# Altium footprint library PCB Overlays.PcbLib: 1 footprints
Each footprint in its own frame and in the unit in brackets; x right, y up, seen from the top. Pads: shape width x height; smd on the part's side, far side on the other; paste and mask are expansions set on the pad; w line width, h text height; cw(c..) or ccw(c..) is an arc to the next point about the centre after c.
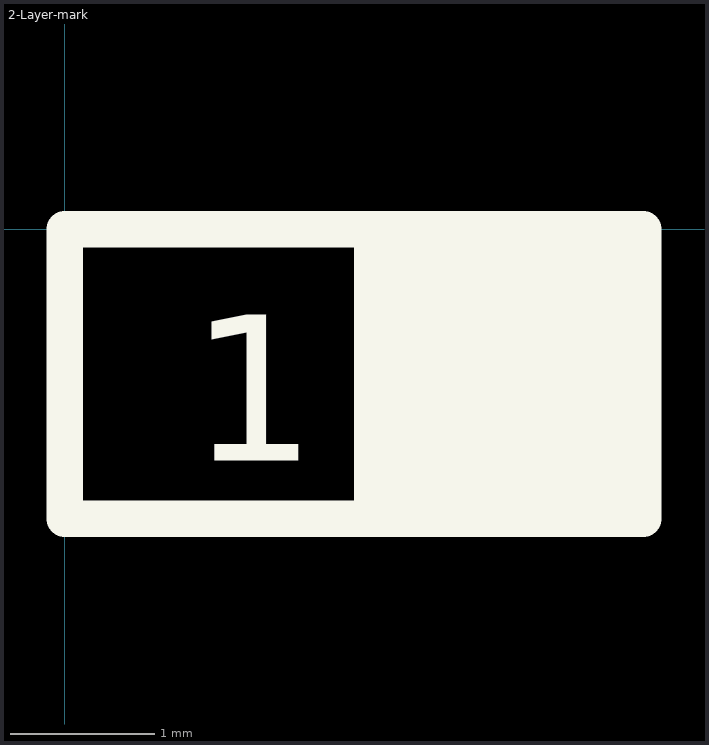
[diagram p0: the footprint, top view; thin cyan lines are the x and y axes]

## 2-Layer-mark [mm] "2 Layer PCB Indicator"
Top Overlay:
  rectangle: 2,-2 4,0
  lines w0.254: 0,-2 4,-2 4,0 0,0 0,-2
  text "1" at 0.864,-1.6 h1.27
Bottom Overlay:
  rectangle: 0,-2 2,0
  lines w0.254: 0,-2 0,0 4,0 4,-2 0,-2
  text "2" at 3.4,-1.6 h1.27
Top Solder:
  rectangle: -0.2,-2.2 4.2,0.2
Bottom Solder:
  rectangle: -0.2,-2.2 4.2,0.2